# Altium footprint library SODFLN710X660X300L160X300N.PcbLib: 1 footprints
Each footprint in its own frame and in the unit in brackets; x right, y up, seen from the top. Pads: shape width x height; smd on the part's side, far side on the other; paste and mask are expansions set on the pad; w line width, h text height; cw(c..) or ccw(c..) is an arc to the next point about the centre after c.
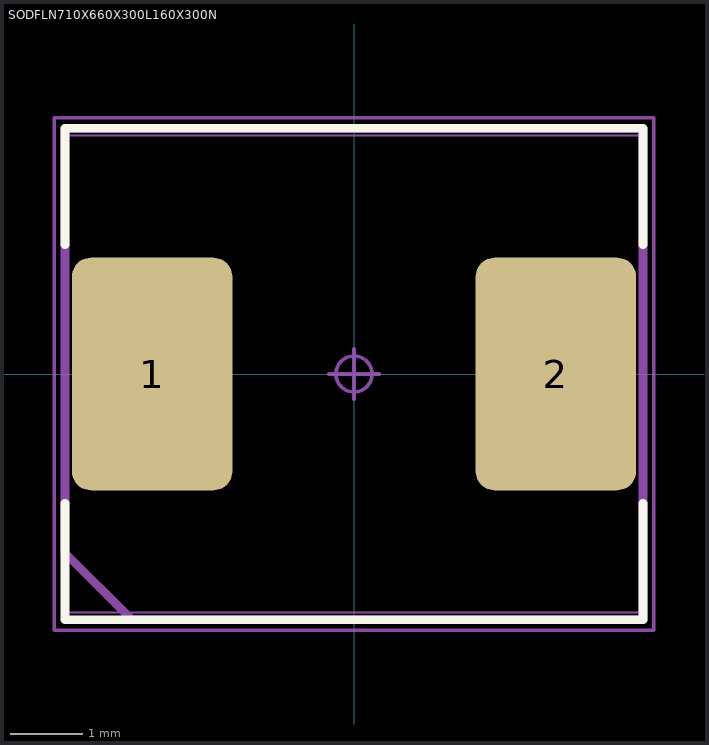
[diagram p0: the footprint, top view; thin cyan lines are the x and y axes]

## SODFLN710X660X300L160X300N [mm] "Diode, Non-Polarized, Small Outline Diode Flat Lead (SODFL); 8.00 mm L X 6.60 mm W X 3.00 mm H body"
height 3
pads (2):
  rrect23% 2.22x3.22 smd: 1(-2.795,0) 2(2.795,0)
Top Overlay:
  lines w0.12: -4,-1.79 -4,-3.4 4,-3.4 4,-1.79 ; -4,1.79 -4,3.4 4,3.4 4,1.79
Mechanical 3:
  lines w0.12: -4,-2.477 -4,3.4 4,3.4 4,-3.4 -3.077,-3.4 -4,-2.477
Mechanical 5:
  lines w0.025: -4,-3.3 4,-3.3 4,3.3 -4,3.3 -4,-3.3 ; -3.55,-1.5 -3.55,1.5 -1.95,1.5 -1.95,-1.5 -3.55,-1.5 ; 1.95,-1.5 3.55,-1.5 3.55,1.5 1.95,1.5 1.95,-1.5
Mechanical 7:
  circle w0.05: c0,0 r0.25
  lines w0.05: -0.35,0 0.35,0 ; 0,-0.35 0,0.35 ; -4.15,-3.55 -4.15,3.55 4.15,3.55 4.15,-3.55 -4.15,-3.55
3D body "SODFLN710X660X300L160X300.STEP": height 3, standoff 0, extent -4,-3.3 4,3.3
3D body: height 1.04, standoff 0, extent -4.15,-3.55 4.15,3.55